# Altium schematic symbol library Kingbright.SchLib: 2 symbols
Pins are listed as number, name and electrical type; pins without a type are passive.

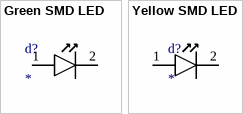
[diagram p0: symbols Green SMD LED to Yellow SMD LED]

## Green SMD LED
designator d?
0603 Package
pins: 1 Anode, 2 Kathode

## Yellow SMD LED
designator d?
0603 Package
footprint 0603 - LED (Generic Package with marking)
pins: 1 Anode, 2 Kathode